# EAGLE library part MAX1627ESA+ (library ecssr-Pwr)
MAXIM - MAX1627ESA+ - CONTROLLER, STEP DOWN, DC-DC, (Switch Mode)
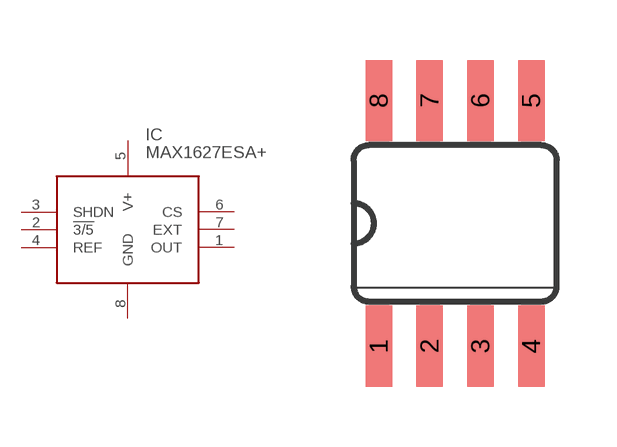
[diagram p4: symbol with the pads of SO04; footprint SO04]

Designator prefix IC

## MAX1627ESA+  [SO04]
1  OUT  out
2  !3/5  in
3  SHDN  in
4  REF  in
5  V+  pwr
6  CS  out
7  EXT  out
8  GND  pwr

## Footprint SO04 (pad centres in mm)
smd 0.66 x 2.032: 1 -4.445,-0.533; 2 -3.175,-0.533; 3 -1.905,-0.533; 4 -0.635,-0.533; 5 -0.635,5.613; 6 -1.905,5.613; 7 -3.175,5.613; 8 -4.445,5.613